# EAGLE library part 690-005-299-043 (library 690-005-299-043)
USB - mini B USB 2.0 Receptacle Connector 5 Position Surface Mount, Right Angle
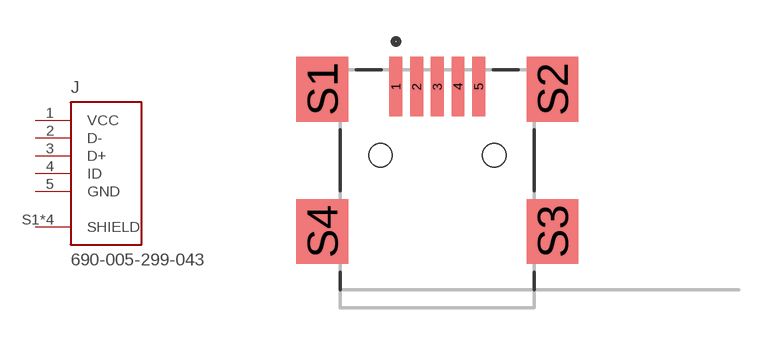
[diagram p0: symbol with the pads of EDAC_690-005-299-043; footprint EDAC_690-005-299-043]

Designator prefix J

## 690-005-299-043 (DESCRIPTION: USB - mini B USB 2.0 Receptacle Connector 5 Position Surface Mount, Right Angle; DIGI-KEY_PART_NUMBER: 151-1206-2-ND; MF: EDAC Inc.; MP: 690-005-299-043; PACKAGE: None; PURCHASE-URL: https://pricing.snapeda.com/search/part/690-005-299-043/?ref=eda)  [EDAC_690-005-299-043]
1  VCC  pwr
2  D-
3  D+
4  ID
5  GND  pwr
S1  SHIELD  pas
S2  SHIELD  pas
S3  SHIELD  pas
S4  SHIELD  pas

## Footprint EDAC_690-005-299-043 (pad centres in mm)
smd 0.5 x 2.3: 1 -1.6,2.65; 2 -0.8,2.65; 3 0,2.65; 4 0.8,2.65; 5 1.6,2.65
smd 2 x 2.5: S1 -4.45,2.55; S2 4.45,2.55; S3 4.45,-2.95; S4 -4.45,-2.95
hole 0.9 at -2.2,0
hole 0.9 at 2.2,0